# EAGLE library part ADG411 (library ADS1115DGS)
LC2MOS Precision Quad SPST Switches Source: http://www.analog.com/static/imported-files/data_sheets/ADG411_412_413.pdf
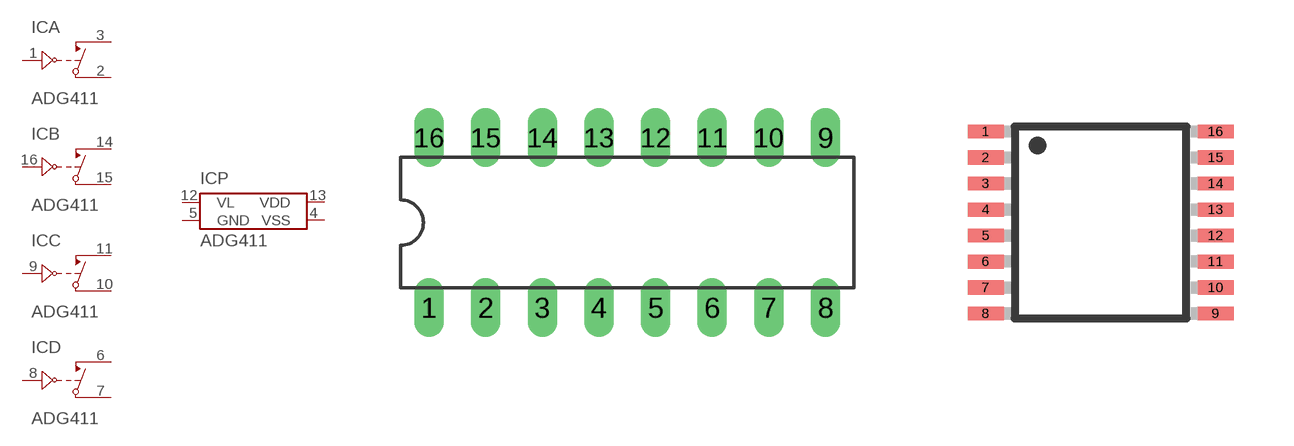
[diagram p130: symbol with the pads of DIL16; footprints DIL16, TSSOP16]

Designator prefix IC; gates A=ADG-SWITCH-CLOSE-INV B=ADG-SWITCH-CLOSE-INV C=ADG-SWITCH-CLOSE-INV D=ADG-SWITCH-CLOSE-INV P=PWR-VSS-VDD-GND-VL

## ADG411N (MF: ALTERA CORPORATION; MPN: ADG411BN; OC_FARNELL: 1424317; OC_NEWARK: 05F6198)  [DIL16]
1  A:IN  in
2  A:D  pas
3  A:S  pas
4  P:VSS  pwr
5  P:GND  pwr
6  D:S  pas
7  D:D  pas
8  D:IN  in
9  C:IN  in
10  C:D  pas
11  C:S  pas
12  P:VL  pwr
13  P:VDD  pwr
14  B:S  pas
15  B:D  pas
16  B:IN  in

## ADG411RU (MF: ALTERA CORPORATION; MPN: ADG411BRUZ; OC_FARNELL: 1424318; OC_NEWARK: 59K1243)  [TSSOP16]
Pads as for DIL16

## ADG411R (MPN: ADG411BRZ; OC_FARNELL: 1424319; OC_NEWARK: 19M8649)  [SOIC16N]
Pads as for DIL16

## Footprint DIL16 (pad centres in mm)
Dual In Line Package
drill 0.813 long: 1 -8.89,-3.81; 2 -6.35,-3.81; 3 -3.81,-3.81; 4 -1.27,-3.81; 5 1.27,-3.81; 6 3.81,-3.81; 7 6.35,-3.81; 8 8.89,-3.81; 9 8.89,3.81; 10 6.35,3.81; 11 3.81,3.81; 12 1.27,3.81; 13 -1.27,3.81; 14 -3.81,3.81; 15 -6.35,3.81; 16 -8.89,3.81

## Footprint TSSOP16 (pad centres in mm)
16-Lead Thin Shrink Small Outline Package [TSSOP] (RU-16) Source: 8x ADG1408_1409.pdf
smd 0.9 x 0.35: 1 -2.875,2.275; 2 -2.875,1.625; 3 -2.875,0.975; 4 -2.875,0.325; 5 -2.875,-0.325; 6 -2.875,-0.975; 7 -2.875,-1.625; 8 -2.875,-2.275; 9 2.875,-2.275; 10 2.875,-1.625; 11 2.875,-0.975; 12 2.875,-0.325; 13 2.875,0.325; 14 2.875,0.975; 15 2.875,1.625; 16 2.875,2.275

## Footprint SOIC16N (pad centres in mm)
SMALL OUTLINE INTEGRATED CIRCUIT
smd 0.6 x 2.2: 1 -4.445,-2.6; 2 -3.175,-2.6; 3 -1.905,-2.6; 4 -0.635,-2.6; 5 0.635,-2.6; 6 1.905,-2.6; 7 3.175,-2.6; 8 4.445,-2.6; 9 4.445,2.6; 10 3.175,2.6; 11 1.905,2.6; 12 0.635,2.6; 13 -0.635,2.6; 14 -1.905,2.6; 15 -3.175,2.6; 16 -4.445,2.6